# EAGLE library part MIC4605-1YM (library libSheldonDrone)
MICREL SEMICONDUCTOR MIC4605-1YM DRIVER, MOSFET, 5.5V-16V, SOIC-8
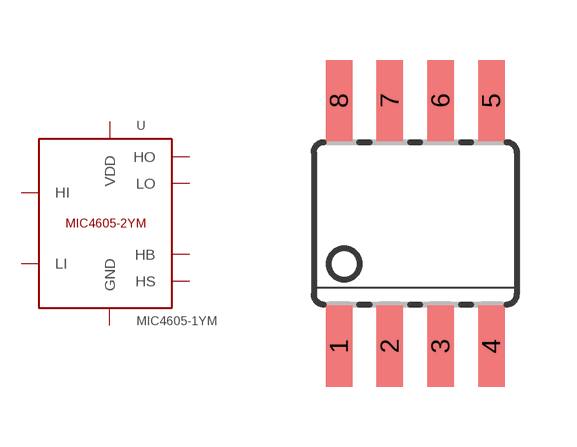
[diagram p4: symbol with the pads of SOIC08; footprint SOIC08]

Designator prefix -

## MIC4605-1YM (FARNELL: 2382322)  [SOIC08]
1  VDD  pwr
2  HB  out
3  HO  out
4  HS  out
5  HI  in
6  LI  in
7  GND  pwr
8  LO  out

## Footprint SOIC08 (pad centres in mm)
Small Outline Package
smd 0.66 x 2.032: 1 -1.905,-3.073; 2 -0.635,-3.073; 3 0.635,-3.073; 4 1.905,-3.073; 5 1.905,3.073; 6 0.635,3.073; 7 -0.635,3.073; 8 -1.905,3.073